# EAGLE library part 10W-LED (library PowerTechLIB2)
PowerTech LED RGB 10W Leds used by PowerTech
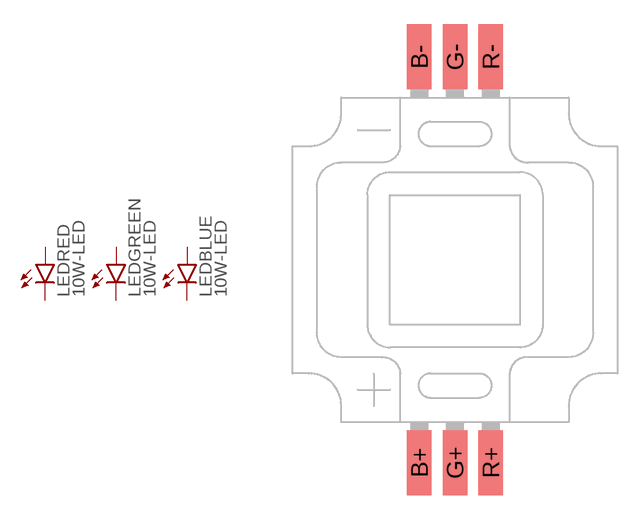
[diagram p6: symbol with the pads of 10WLED; footprint 10WLED]

Designator prefix LED; gates RED=LED GREEN=LED BLUE=LED

## 10W-LED-RGB  [10WLED]
B+  BLUE:A  pas
B-  BLUE:C  pas
G+  GREEN:A  pas
G-  GREEN:C  pas
R+  RED:A  pas
R-  RED:C  pas

## Footprint 10WLED (pad centres in mm)
smd 1.5 x 4: B+ -2.2,-12.5; B- -2.2,12.5; G+ 0,-12.5; G- 0,12.5; R+ 2.2,-12.5; R- 2.2,12.5